# Altium footprint library descret_pcb.PcbLib: 152 footprints (part 5 of 10)
Each footprint in its own frame and in the unit in brackets; x right, y up, seen from the top. Pads: shape width x height; smd on the part's side, far side on the other; paste and mask are expansions set on the pad; w line width, h text height; cw(c..) or ccw(c..) is an arc to the next point about the centre after c.
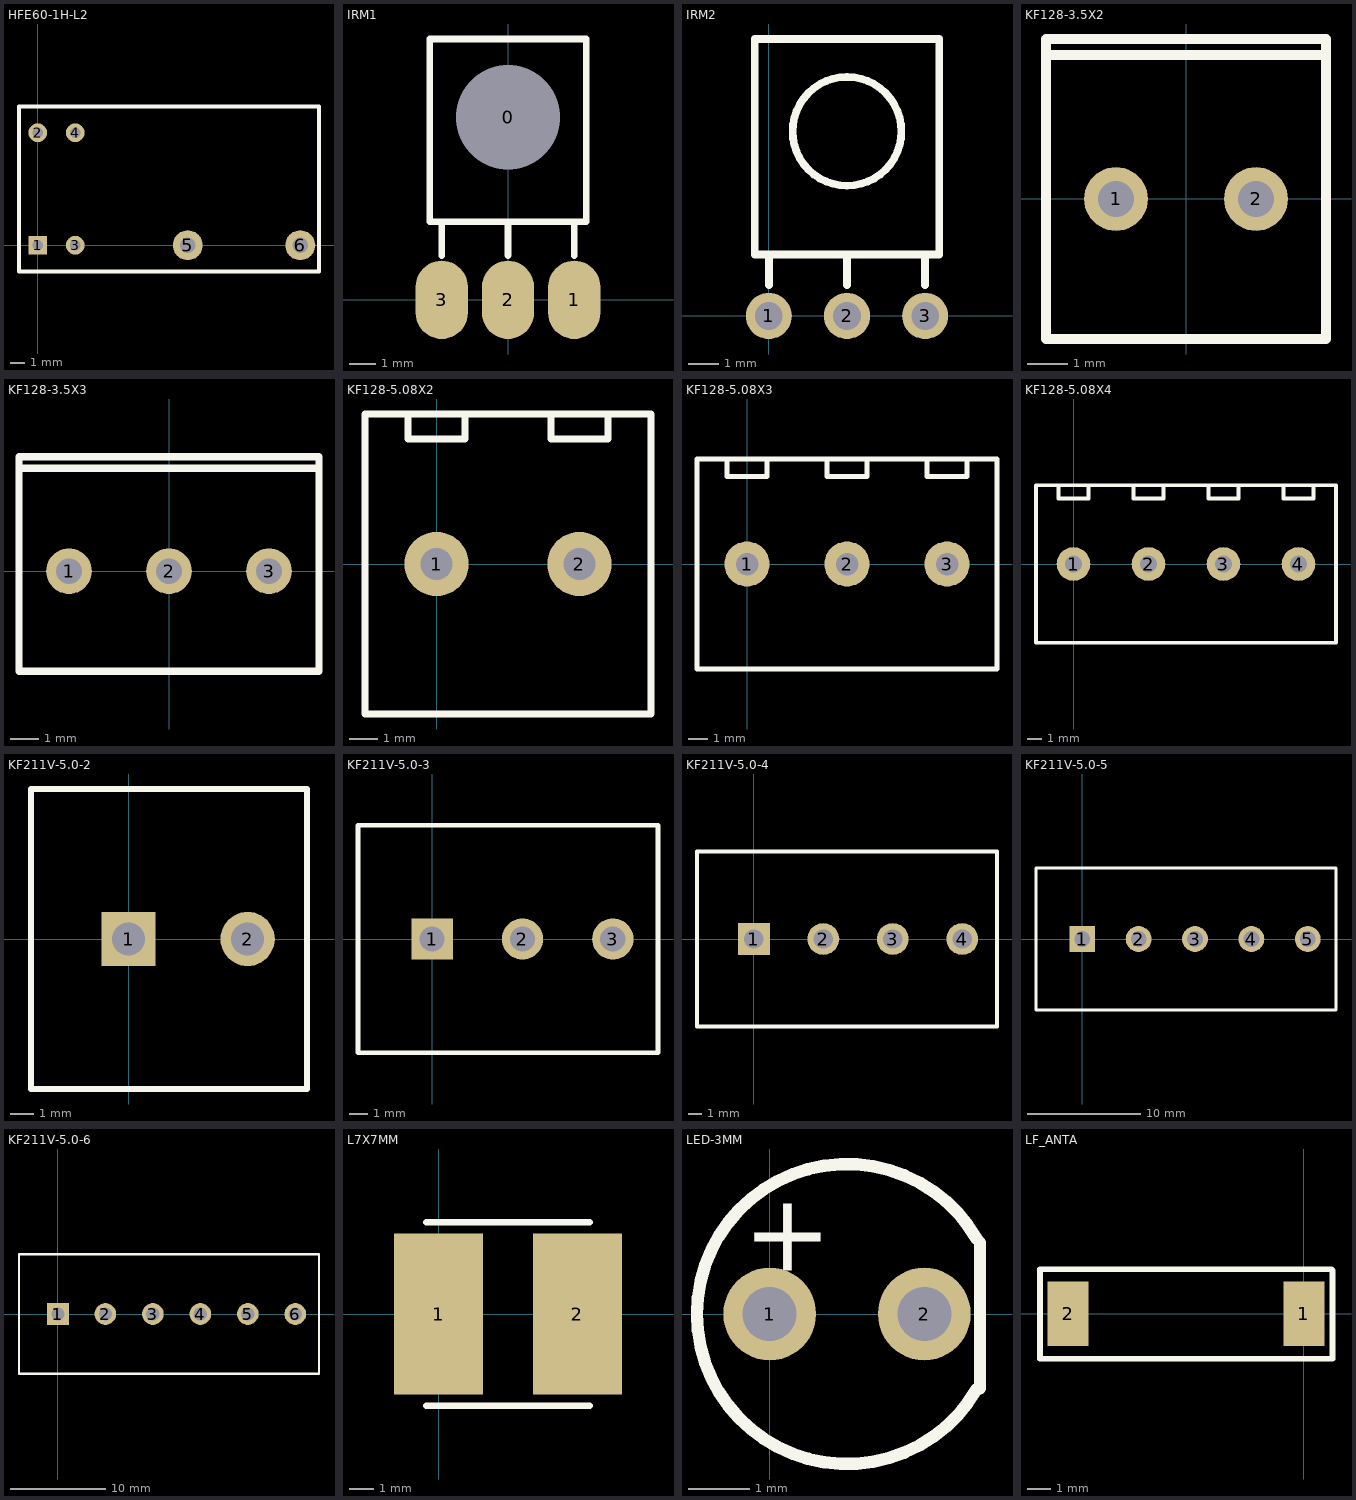
[diagram p4: the footprints below, top view; thin cyan lines are the x and y axes]

## HFE60-1H-L2 [mil]
pads (6):
  rect 50x50 hole 28: 1(0,0)
  round 50 hole 28: 2(0,300) 3(100,0) 4(100,300)
  round 80 hole 42: 5(400,0) 6(700,0)
TopOverlay:
  lines w10: -50,-70 -50,370 750,370 750,-70 -50,-70

## IRM1 [mm]
pads (4):
  round 3 hole 4 unplated: 0(0,7)
  oval 2x3 smd: 1(2.54,0) 2(0,0) 3(-2.54,0)
TopOverlay:
  lines w0.254: -2.54,1.7 -2.54,3 ; 0,1.7 0,3 ; 2.54,1.7 2.54,3 ; -3,3 3,3 3,10 -3,10 -3,3

## IRM2 [mm]
pads (3):
  round 1.5 hole 0.9: 1(0,0) 2(2.54,0) 3(5.08,0)
TopOverlay:
  circle w0.25: c2.54,6 r1.768
  lines w0.254: 0,1 0,2 ; 2.54,1 2.54,2 ; 5.08,1 5.08,2 ; -0.46,2 5.54,2 5.54,9 -0.46,9 -0.46,2

## KF128-3.5X2 [mm]
pads (2):
  round 1.6 hole 0.9: 1(-1.75,0) 2(1.75,0)
TopOverlay:
  lines w0.254: -3.5,3.6 3.5,3.6 ; -3.5,-3.5 3.5,-3.5 3.5,4 -3.5,4 -3.5,-3.5

## KF128-3.5X3 [mm]
pads (3):
  round 1.6 hole 0.9: 1(-3.5,0) 2(0,0) 3(3.5,0)
TopOverlay:
  lines w0.254: -5.25,3.6 5.25,3.6 ; -5.25,-3.5 -5.25,4 5.25,4 5.25,-3.5 -5.25,-3.5

## KF128-5.08X2 [mil]
pads (2):
  round 90 hole 45: 1(0,0) 2(200,0)
TopOverlay:
  lines w10: -40,210 -40,175 40,175 40,210 ; 160,210 160,175 240,175 240,210 ; -100,-210 300,-210 300,210 -100,210 -100,-210

## KF128-5.08X3 [mil]
pads (3):
  round 90 hole 45: 1(0,0) 2(200,0) 3(400,0)
TopOverlay:
  lines w10: -40,210 -40,175 40,175 40,210 ; 160,210 160,175 240,175 240,210 ; 360,210 360,175 440,175 440,210 ; -100,-210 500,-210 500,210 -100,210 -100,-210

## KF128-5.08X4 [mil]
pads (4):
  round 90 hole 45: 1(0,0) 2(200,0) 3(400,0) 4(600,0)
TopOverlay:
  lines w10: -40,210 -40,175 40,175 40,210 ; 160,210 160,175 240,175 240,210 ; 360,210 360,175 440,175 440,210 ; 560,210 560,175 640,175 640,210 ; -100,-210 -100,210 700,210 700,-210 -100,-210

## KF211V-5.0-2 [mil]
pads (2):
  rect 90x90 hole 55: 1(0,0)
  round 90 hole 55: 2(196.85,0)
TopOverlay:
  lines w10: -161.42,-248.03 295.28,-248.03 295.28,248.03 -161.42,248.03 -161.42,-248.03

## KF211V-5.0-3 [mil]
pads (3):
  rect 90x90 hole 55: 1(0,0)
  round 90 hole 55: 2(196.85,0) 3(393.7,0)
TopOverlay:
  lines w10: -161.42,-248.03 492.13,-248.03 492.13,248.03 -161.42,248.03 -161.42,-248.03

## KF211V-5.0-4 [mil]
pads (4):
  rect 90x90 hole 55: 1(0,0)
  round 90 hole 55: 2(196.85,0) 3(393.7,0) 4(590.55,0)
TopOverlay:
  lines w10: -161.42,-248.03 688.98,-248.03 688.98,248.03 -161.42,248.03 -161.42,-248.03

## KF211V-5.0-5 [mil]
pads (5):
  rect 90x90 hole 55: 1(0,0)
  round 90 hole 55: 2(196.85,0) 3(393.7,0) 4(590.55,0) 5(787.4,0)
TopOverlay:
  lines w10: -161.42,-248.03 885.83,-248.03 885.83,248.03 -161.42,248.03 -161.42,-248.03

## KF211V-5.0-6 [mil]
pads (6):
  rect 90x90 hole 55: 1(0,0)
  round 90 hole 55: 2(196.85,0) 3(393.7,0) 4(590.55,0) 5(787.4,0) 6(984.25,0)
TopOverlay:
  lines w10: -161.42,-248.03 1082.68,-248.03 1082.68,248.03 -161.42,248.03 -161.42,-248.03

## L7X7MM [mm]
height 0.508
pads (2):
  rect 3.6x6.5 smd: 1(0,0) 2(5.6,0)
TopOverlay:
  lines w0.254: -0.5,-3.7 6.1,-3.7 ; -0.5,3.7 6.1,3.7

## LED-3MM [mil]
pads (2):
  round 60 hole 35: 1(0,0) 2(100,0)
TopOverlay:
  lines w8: 134,-48.5 cw(c50,0) 134,48.5 ; 136,-48 136,46
  text "+" at -17,28 h50
3D body "CircuitWorks-REDLED.STEP": height 212, standoff -125, extent -29.3,-68.4 127.7,69.1

## LF_ANTA [mm]
pads (2):
  rect 1.78x2.79 smd: 1(0,0) 2(-10.24,0)
TopOverlay:
  lines w0.254: -11.456,-1.956 -10.948,-1.956 -10.237,-1.956 1.244,-1.956 1.244,1.88 1.193,1.93 -11.456,1.93 -11.456,-1.956